# EAGLE library part 74*612 (library FT74xx)
MEMORY MAPPER
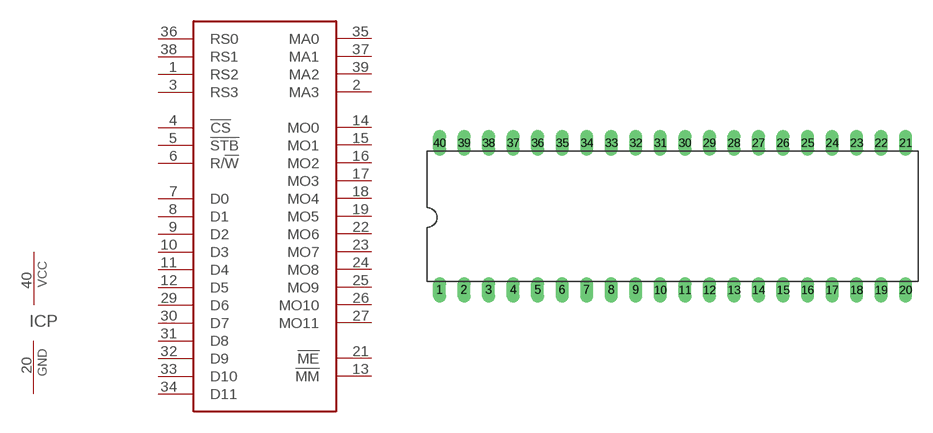
[diagram p225: symbol with the pads of DIL40; footprint DIL40]

Designator prefix IC; gates A=74612 P=PWRN

## 74612N  [DIL40]
1  A:RS2  in
2  A:MA3  in
3  A:RS3  in
4  A:!CS  in
5  A:!STB  in
6  A:R/!W  in
7  A:D0  hiz
8  A:D1  hiz
9  A:D2  hiz
10  A:D3  hiz
11  A:D4  hiz
12  A:D5  hiz
13  A:!MM  in
14  A:MO0  out
15  A:MO1  out
16  A:MO2  out
17  A:MO3  out
18  A:MO4  out
19  A:MO5  out
20  P:GND  pwr
21  A:!ME  in
22  A:MO6  out
23  A:MO7  out
24  A:MO8  out
25  A:MO9  out
26  A:MO10  out
27  A:MO11  out
29  A:D6  hiz
30  A:D7  hiz
31  A:D8  hiz
32  A:D9  hiz
33  A:D10  hiz
34  A:D11  hiz
35  A:MA0  in
36  A:RS0  in
37  A:MA1  in
38  A:RS1  in
39  A:MA2  in
40  P:VCC  pwr

## Footprint DIL40 (pad centres in mm)
Dual In Line Package
drill 0.813 long: 1 -24.13,-7.62; 2 -21.59,-7.62; 3 -19.05,-7.62; 4 -16.51,-7.62; 5 -13.97,-7.62; 6 -11.43,-7.62; 7 -8.89,-7.62; 8 -6.35,-7.62; 9 -3.81,-7.62; 10 -1.27,-7.62; 11 1.27,-7.62; 12 3.81,-7.62; 13 6.35,-7.62; 14 8.89,-7.62; 15 11.43,-7.62; 16 13.97,-7.62; 17 16.51,-7.62; 18 19.05,-7.62; 19 21.59,-7.62; 20 24.13,-7.62; 21 24.13,7.62; 22 21.59,7.62; 23 19.05,7.62; 24 16.51,7.62; 25 13.97,7.62; 26 11.43,7.62; 27 8.89,7.62; 28 6.35,7.62; 29 3.81,7.62; 30 1.27,7.62; 31 -1.27,7.62; 32 -3.81,7.62; 33 -6.35,7.62; 34 -8.89,7.62; 35 -11.43,7.62; 36 -13.97,7.62; 37 -16.51,7.62; 38 -19.05,7.62; 39 -21.59,7.62; 40 -24.13,7.62